# Altium footprint library PcbLib1.PcbLib: 32 footprints (part 2 of 2)
Each footprint in its own frame and in the unit in brackets; x right, y up, seen from the top. Pads: shape width x height; smd on the part's side, far side on the other; paste and mask are expansions set on the pad; w line width, h text height; cw(c..) or ccw(c..) is an arc to the next point about the centre after c.
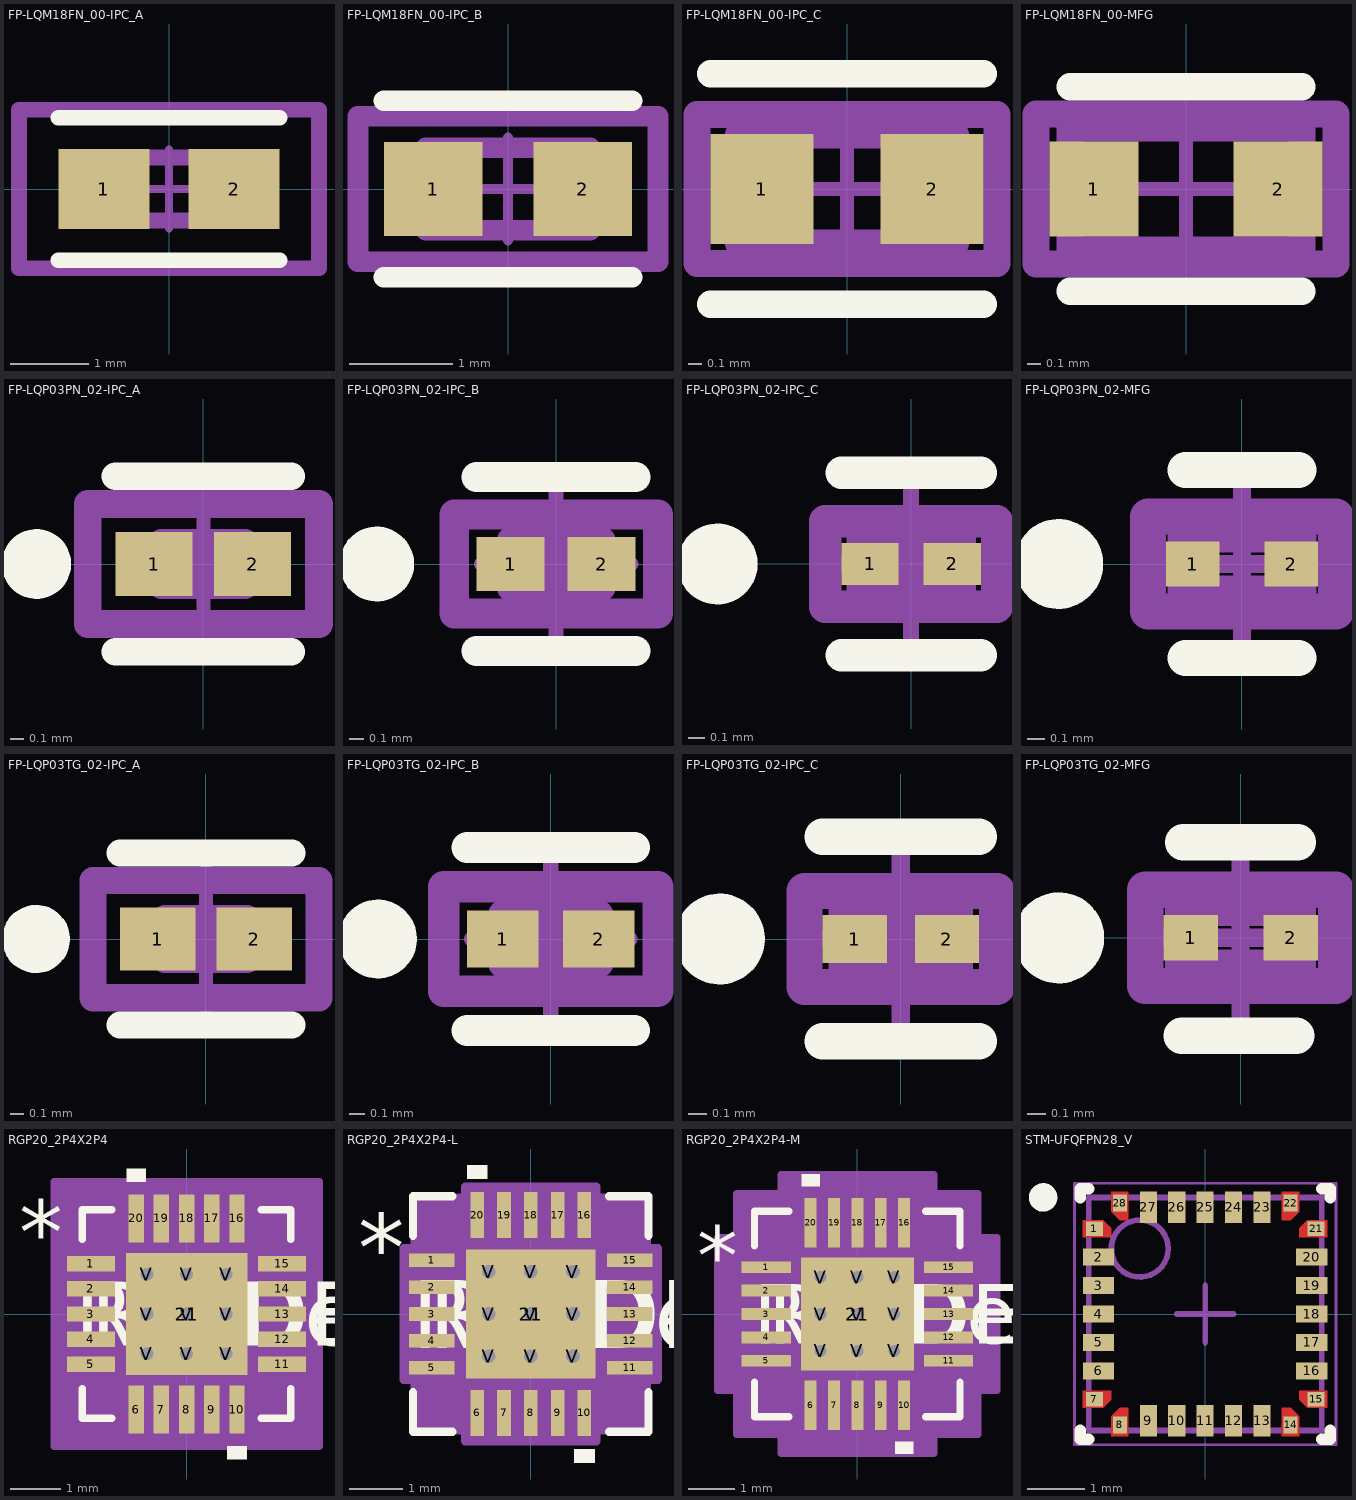
[diagram p1: the footprints below, top view; thin cyan lines are the x and y axes]

## FP-LQM18FN_00-IPC_A [mil]
pads (2):
  rect 45.6x39.85 smd paste+0 mask+0: 1(-32.56,0) 2(32.56,0)
Top Overlay:
  lines w7.87: -55.36,-35.67 55.36,-35.67 ; -55.36,35.67 55.36,35.67
Top 3D Body:
  lines w7.87: -31.5,-15.75 -31.5,15.75 31.5,15.75 31.5,-15.75 -31.5,-15.75
Top Courtyard:
  lines w7.87: -75.04,-39.61 -75.04,39.61 75.04,39.61 75.04,-39.61 -75.04,-39.61
Top Assembly:
  lines w7.87: -75.04,-39.61 -75.04,39.61 75.04,39.61 75.04,-39.61 -75.04,-39.61
  text ".Designator" at 0,7.4 h39.37
Top Component Center:
  lines w3.94: -19.68,0 19.68,0 ; 0,-19.68 0,19.68
3D body "Ind_Murata_LQM18FN4R7M00J_eec.STEP": height 10, standoff 0, extent -75.04,-39.61 75.04,39.61

## FP-LQM18FN_00-IPC_B [mil]
pads (2):
  rect 37.72x35.91 smd paste+0 mask+0: 1(-28.62,0) 2(28.62,0)
Top Overlay:
  lines w7.87: -47.48,-33.7 47.48,-33.7 ; -47.48,33.7 47.48,33.7
Top 3D Body:
  lines w7.87: -31.5,-15.75 31.5,-15.75 31.5,15.75 -31.5,15.75 -31.5,-15.75
Top Courtyard:
  lines w7.87: -57.33,-27.8 57.33,-27.8 57.33,27.8 -57.33,27.8 -57.33,-27.8
Top Assembly:
  lines w7.87: -57.33,-27.8 57.33,-27.8 57.33,27.8 -57.33,27.8 -57.33,-27.8
  text ".Designator" at 0,7.4 h39.37
Top Component Center:
  lines w3.94: -19.68,0 19.68,0 ; 0,-19.68 0,19.68
3D body "Ind_Murata_LQM18FN4R7M00J_eec.STEP": height 10, standoff 0, extent -57.33,-27.8 57.33,27.8

## FP-LQM18FN_00-IPC_C [mil]
pads (2):
  rect 29.85x31.97 smd paste+0 mask+0: 1(-24.68,0) 2(24.68,0)
Top Overlay:
  lines w7.87: -39.61,-33.46 39.61,-33.46 ; -39.61,33.46 39.61,33.46
Top 3D Body:
  lines w7.87: -31.5,-15.75 -31.5,15.75 31.5,15.75 31.5,-15.75 -31.5,-15.75
Top Courtyard:
  lines w7.87: -43.55,-21.65 -43.55,21.65 43.55,21.65 43.55,-21.65 -43.55,-21.65
Top Assembly:
  lines w7.87: -43.55,-21.65 -43.55,21.65 43.55,21.65 43.55,-21.65 -43.55,-21.65
  text ".Designator" at 0,7.4 h39.37
Top Component Center:
  lines w3.94: -19.68,0 19.68,0 ; 0,-19.68 0,19.68
3D body "Ind_Murata_LQM18FN4R7M00J_eec.STEP": height 10, standoff 0, extent -43.55,-21.65 43.55,21.65

## FP-LQM18FN_00-MFG [mm]
pads (2):
  rect 0.65x0.7 smd paste+0 mask+0: 1(-0.675,0) 2(0.675,0)
Top Overlay:
  lines w0.2: -0.85,-0.75 0.85,-0.75 ; -0.85,0.75 0.85,0.75
Top 3D Body:
  lines w0.2: -0.85,-0.45 0.85,-0.45 0.85,0.45 -0.85,0.45 -0.85,-0.45
Top Courtyard:
  lines w0.2: -1.1,-0.55 1.1,-0.55 1.1,0.55 -1.1,0.55 -1.1,-0.55
Top Assembly:
  lines w0.2: -1.1,-0.55 1.1,-0.55 1.1,0.55 -1.1,0.55 -1.1,-0.55
  text ".Designator" at 0,0.188 h1
Top Component Center:
  lines w0.1: -0.5,0 0.5,0 ; 0,-0.5 0,0.5
3D body "Ind_Murata_LQM18FN4R7M00J_eec.STEP": height 0.25, standoff 0, extent -1.1,-0.55 1.1,0.55

## FP-LQP03PN_02-IPC_A [mil]
pads (2):
  rect 21.82x18.22 smd paste+0 mask+0: 1(-13.95,0) 2(13.95,0)
Top Overlay:
  circle w9.84: c-47.24,0 r4.92
  lines w7.87: -24.86,-24.86 24.86,-24.86 ; -24.86,24.86 24.86,24.86
Top 3D Body:
  lines w7.87: -11.81,-5.91 -11.81,5.91 11.81,5.91 11.81,-5.91 -11.81,-5.91
Top Courtyard:
  lines w7.87: -32.73,-16.98 -32.73,16.98 32.73,16.98 32.73,-16.98 -32.73,-16.98
Top Assembly:
  lines w7.87: -32.73,-16.98 -32.73,16.98 32.73,16.98 32.73,-16.98 -32.73,-16.98
  text ".Designator" at 0,-0.01 h39.37
Top Component Center:
  lines w3.94: -19.68,0 19.68,0 ; 0,-19.68 0,19.68
3D body "Ind_Murata_LQP03TG39NJ02D_eec.STEP": height 10, standoff 0, extent -32.73,-16.98 32.73,16.98

## FP-LQP03PN_02-IPC_B [mil]
pads (2):
  rect 17.88x14.28 smd paste+0 mask+0: 1(-11.98,0) 2(11.98,0)
Top Overlay:
  circle w9.84: c-47.24,0 r4.92
  lines w7.87: -20.92,-22.89 20.92,-22.89 ; -20.92,22.89 20.92,22.89
Top 3D Body:
  lines w7.87: -11.81,-5.91 -11.81,5.91 11.81,5.91 11.81,-5.91 -11.81,-5.91
Top Courtyard:
  lines w7.87: -26.83,-13.05 -26.83,13.05 26.83,13.05 26.83,-13.05 -26.83,-13.05
Top Assembly:
  lines w7.87: -26.83,-13.05 -26.83,13.05 26.83,13.05 26.83,-13.05 -26.83,-13.05
  text ".Designator" at 0,-0.01 h39.37
Top Component Center:
  lines w3.94: -19.68,0 19.68,0 ; 0,-19.68 0,19.68
3D body "Ind_Murata_LQP03TG39NJ02D_eec.STEP": height 10, standoff 0, extent -26.83,-13.05 26.83,13.05

## FP-LQP03PN_02-IPC_C [mil]
pads (2):
  rect 13.94x10.34 smd paste+0 mask+0: 1(-10.01,0) 2(10.01,0)
Top Overlay:
  circle w9.84: c-47.24,0 r4.92
  lines w7.87: -16.98,-22.24 16.98,-22.24 ; -16.98,22.24 16.98,22.24
Top 3D Body:
  lines w7.87: -11.81,-5.91 -11.81,5.91 11.81,5.91 11.81,-5.91 -11.81,-5.91
Top Courtyard:
  lines w7.87: -20.92,-10.43 -20.92,10.43 20.92,10.43 20.92,-10.43 -20.92,-10.43
Top Assembly:
  lines w7.87: -20.92,-10.43 -20.92,10.43 20.92,10.43 20.92,-10.43 -20.92,-10.43
  text ".Designator" at 0,-0.01 h39.37
Top Component Center:
  lines w3.94: -19.68,0 19.68,0 ; 0,-19.68 0,19.68
3D body "Ind_Murata_LQP03TG39NJ02D_eec.STEP": height 10, standoff 0, extent -20.92,-10.43 20.92,10.43

## FP-LQP03PN_02-MFG [mm]
pads (2):
  rect 0.3x0.25 smd paste+0 mask+0: 1(-0.275,0) 2(0.275,0)
Top Overlay:
  circle w0.25: c-1.025,0 r0.125
  lines w0.2: -0.315,-0.525 0.315,-0.525 ; -0.315,0.525 0.315,0.525
Top 3D Body:
  lines w0.2: -0.315,-0.165 0.315,-0.165 0.315,0.165 -0.315,0.165 -0.315,-0.165
Top Courtyard:
  lines w0.2: -0.525,-0.265 0.525,-0.265 0.525,0.265 -0.525,0.265 -0.525,-0.265
Top Assembly:
  lines w0.2: -0.525,-0.265 0.525,-0.265 0.525,0.265 -0.525,0.265 -0.525,-0.265
  text ".Designator" at 0,0 h1
Top Component Center:
  lines w0.1: -0.5,0 0.5,0 ; 0,-0.5 0,0.5
3D body "Ind_Murata_LQP03TG39NJ02D_eec.STEP": height 0.25, standoff 0, extent -0.525,-0.265 0.525,0.265

## FP-LQP03TG_02-IPC_A [mil]
pads (2):
  rect 21.82x18.22 smd paste+0 mask+0: 1(-13.95,0) 2(13.95,0)
Top Overlay:
  circle w9.84: c-49.21,0 r4.92
  lines w7.87: -24.86,-24.86 24.86,-24.86 ; -24.86,24.86 24.86,24.86
Top 3D Body:
  lines w7.87: -11.81,-5.91 -11.81,5.91 11.81,5.91 11.81,-5.91 -11.81,-5.91
Top Courtyard:
  lines w7.87: -32.73,-16.98 -32.73,16.98 32.73,16.98 32.73,-16.98 -32.73,-16.98
Top Assembly:
  lines w7.87: -32.73,-16.98 -32.73,16.98 32.73,16.98 32.73,-16.98 -32.73,-16.98
  text ".Designator" at 0,-0.01 h39.37
Top Component Center:
  lines w3.94: -19.68,0 19.68,0 ; 0,-19.68 0,19.68
3D body "Ind_Murata_LQP03TN3N7BZ2J_eec.STEP": height 10, standoff 0, extent -32.73,-16.98 32.73,16.98

## FP-LQP03TG_02-IPC_B [mil]
pads (2):
  rect 17.88x14.28 smd paste+0 mask+0: 1(-11.98,0) 2(11.98,0)
Top Overlay:
  circle w9.84: c-43.31,0 r4.92
  lines w7.87: -20.92,-22.89 20.92,-22.89 ; -20.92,22.89 20.92,22.89
Top 3D Body:
  lines w7.87: -11.81,-5.91 -11.81,5.91 11.81,5.91 11.81,-5.91 -11.81,-5.91
Top Courtyard:
  lines w7.87: -26.83,-13.05 -26.83,13.05 26.83,13.05 26.83,-13.05 -26.83,-13.05
Top Assembly:
  lines w7.87: -26.83,-13.05 -26.83,13.05 26.83,13.05 26.83,-13.05 -26.83,-13.05
  text ".Designator" at 0,-0.01 h39.37
Top Component Center:
  lines w3.94: -19.68,0 19.68,0 ; 0,-19.68 0,19.68
3D body "Ind_Murata_LQP03TN3N7BZ2J_eec.STEP": height 10, standoff 0, extent -26.83,-13.05 26.83,13.05

## FP-LQP03TG_02-IPC_C [mil]
pads (2):
  rect 13.94x10.34 smd paste+0 mask+0: 1(-10.01,0) 2(10.01,0)
Top Overlay:
  circle w9.84: c-39.37,0 r4.92
  lines w7.87: -16.98,-22.24 16.98,-22.24 ; -16.98,22.24 16.98,22.24
Top 3D Body:
  lines w7.87: -11.81,-5.91 11.81,-5.91 11.81,5.91 -11.81,5.91 -11.81,-5.91
Top Courtyard:
  lines w7.87: -20.92,-10.43 20.92,-10.43 20.92,10.43 -20.92,10.43 -20.92,-10.43
Top Assembly:
  lines w7.87: -20.92,-10.43 20.92,-10.43 20.92,10.43 -20.92,10.43 -20.92,-10.43
  text ".Designator" at 0,-0.01 h39.37
Top Component Center:
  lines w3.94: -19.68,0 19.68,0 ; 0,-19.68 0,19.68
3D body "Ind_Murata_LQP03TN3N7BZ2J_eec.STEP": height 10, standoff 0, extent -20.92,-10.43 20.92,10.43

## FP-LQP03TG_02-MFG [mm]
pads (2):
  rect 0.3x0.25 smd paste+0 mask+0: 1(-0.275,0) 2(0.275,0)
Top Overlay:
  circle w0.25: c-1,0 r0.125
  lines w0.2: -0.323,-0.538 0.307,-0.538 ; -0.315,0.525 0.315,0.525
Top 3D Body:
  lines w0.2: -0.315,-0.165 -0.315,0.165 0.315,0.165 0.315,-0.165 -0.315,-0.165
Top Courtyard:
  lines w0.2: -0.525,-0.265 -0.525,0.265 0.525,0.265 0.525,-0.265 -0.525,-0.265
Top Assembly:
  lines w0.2: -0.525,-0.265 -0.525,0.265 0.525,0.265 0.525,-0.265 -0.525,-0.265
  text ".Designator" at 0,0 h1
Top Component Center:
  lines w0.1: -0.5,0 0.5,0 ; 0,-0.5 0,0.5
3D body "Ind_Murata_LQP03TN3N7BZ2J_eec.STEP": height 0.25, standoff 0, extent -0.525,-0.265 0.525,0.265

## RGP20_2P4X2P4 [mil]
pads (30):
  rect 37.5x12 smd paste-18.75 mask-19: 1(-74.75,39.37) 2(-74.75,19.68) 3(-74.75,0) 4(-74.75,-19.68) 5(-74.75,-39.37) 11(74.75,-39.37) 12(74.75,-19.68) 13(74.75,0) 14(74.75,19.68) 15(74.75,39.37)
  rect 12x37.5 smd paste-18.75 mask-19: 6(-39.37,-74.75) 7(-19.68,-74.75) 8(0,-74.75) 9(19.68,-74.75) 10(39.37,-74.75) 16(39.37,74.75) 17(19.68,74.75) 18(0,74.75) 19(-19.68,74.75) 20(-39.37,74.75)
  rect 95x95 smd paste-47 mask-47: 21(0,0)
  round 20 / inner round 60 / far side round 20 hole 10 paste-99999 mask-10: V(-31,-31) V(-31,0) V(-31,31) V(0,-31) V(0,0) V(0,31) V(31,-31) V(31,0) V(31,31)
Top Overlay:
  region: -31.87,103.5 -46.87,103.5 -46.87,113.5 -31.87,113.5
  region: 46.87,-103.5 31.87,-103.5 31.87,-113.5 46.87,-113.5
  lines w6: -81.5,-58.47 -81.5,-81.5 -58.47,-81.5 ; -81.5,58.47 -81.5,81.5 -58.47,81.5 ; 58.47,-81.5 81.5,-81.5 81.5,-58.47 ; 58.47,81.5 81.5,81.5 81.5,58.47
  text "REFDES" at -87.5,-25 h50
  text "RefDes" at -75,-25 h50
  text "*" at -131,39.21 h50
Top Paste:
  drawing of 16 lines, arcs and shapes, not listed
Top Solder:
  region: 38.87,-50 38.87,50 50,50 50,-50
  region: 23.13,-50 23.13,50 7.87,50 7.87,-50
  region: -7.87,-50 -7.87,50 -23.13,50 -23.13,-50
  region: -50,-50 -50,50 -38.87,50 -38.87,-50
  region: -50,-50 -50,-38.87 50,-38.87 50,-50
  region: -50,-23.13 -50,-7.87 50,-7.87 50,-23.13
  region: -50,7.87 -50,23.13 50,23.13 50,7.87
  region: -50,38.87 -50,50 50,50 50,38.87
Mechanical 13:
  lines w1: -81.5,31.5 -31.5,81.5 ; -81.5,-81.5 -81.5,81.5 81.5,81.5 81.5,-81.5 -81.5,-81.5 ; -81.5,-45.37 -81.5,-33.37 -81.5,-45.37 ; -81.5,-25.68 -81.5,-13.69 -81.5,-25.68 ; -81.5,-6 -81.5,6 -81.5,-6 ; -81.5,13.69 -81.5,25.68 -81.5,13.69 ; -81.5,33.37 -81.5,45.37 -81.5,33.37 ; -45.37,-81.5 -33.37,-81.5 -45.37,-81.5 ; -45.37,81.5 -33.37,81.5 -45.37,81.5 ; -25.68,-81.5 -13.69,-81.5 -25.68,-81.5 ; -25.68,81.5 -13.69,81.5 -25.68,81.5 ; -6,-81.5 6,-81.5 -6,-81.5 ; -6,81.5 6,81.5 -6,81.5 ; 13.69,-81.5 25.68,-81.5 13.69,-81.5 ; 13.69,81.5 25.68,81.5 13.69,81.5 ; 33.37,-81.5 45.37,-81.5 33.37,-81.5 ; 33.37,81.5 45.37,81.5 33.37,81.5 ; 81.5,-45.37 81.5,-33.37 81.5,-45.37 ; 81.5,-25.68 81.5,-13.69 81.5,-25.68 ; 81.5,-6 81.5,6 81.5,-6 ; 81.5,13.69 81.5,25.68 81.5,13.69 ; 81.5,33.37 81.5,45.37 81.5,33.37
  text "RefDes2" at -87.5,-25 h50
  text "*" at -131,39.21 h50
Mechanical 15:
  region: 103.5,-103.5 -103.5,-103.5 -103.5,103.5 103.5,103.5
  lines w6: -103.5,-103.5 103.5,-103.5 103.5,103.5 -103.5,103.5 -103.5,-103.5
3D body "RGP20_2P4X2P4.step": height 39.09, standoff 0, extent -81.5,-81.5 81.5,81.5

## RGP20_2P4X2P4-L [mil]
pads (30):
  rect 33.5x10 smd paste+0 mask+0: 1(-72.75,39.37) 2(-72.75,19.68) 3(-72.75,0) 4(-72.75,-19.68) 5(-72.75,-39.37) 11(72.75,-39.37) 12(72.75,-19.68) 13(72.75,0) 14(72.75,19.68) 15(72.75,39.37)
  rect 10x33.5 smd paste+0 mask+0: 6(-39.37,-72.75) 7(-19.68,-72.75) 8(0,-72.75) 9(19.68,-72.75) 10(39.37,-72.75) 16(39.37,72.75) 17(19.68,72.75) 18(0,72.75) 19(-19.68,72.75) 20(-39.37,72.75)
  rect 95x95 smd paste-47 mask-47: 21(0,0)
  round 20 / inner round 60 / far side round 20 hole 10 paste-99999 mask-10: V(-31,-31) V(-31,0) V(-31,31) V(0,-31) V(0,0) V(0,31) V(31,-31) V(31,0) V(31,31)
Top Overlay:
  region: -31.87,99.5 -46.87,99.5 -46.87,109.5 -31.87,109.5
  region: 46.87,-99.5 31.87,-99.5 31.87,-109.5 46.87,-109.5
  lines w6: -86.5,-57.47 -86.5,-86.5 -57.47,-86.5 ; -86.5,57.47 -86.5,86.5 -57.47,86.5 ; 57.47,-86.5 86.5,-86.5 86.5,-57.47 ; 57.47,86.5 86.5,86.5 86.5,57.47
  text "REFDES" at -87.5,-25 h50
  text "RefDes" at -75,-25 h50
  text "*" at -127,24.21 h50
Top Paste:
  drawing of 16 lines, arcs and shapes, not listed
Top Solder:
  region: 38.87,-50 38.87,50 50,50 50,-50
  region: 23.13,-50 23.13,50 7.87,50 7.87,-50
  region: -7.87,-50 -7.87,50 -23.13,50 -23.13,-50
  region: -50,-50 -50,50 -38.87,50 -38.87,-50
  region: -50,-50 -50,-38.87 50,-38.87 50,-50
  region: -50,-23.13 -50,-7.87 50,-7.87 50,-23.13
  region: -50,7.87 -50,23.13 50,23.13 50,7.87
  region: -50,38.87 -50,50 50,50 50,38.87
Mechanical 13:
  lines w1: -81.5,31.5 -31.5,81.5 ; -81.5,-81.5 -81.5,81.5 81.5,81.5 81.5,-81.5 -81.5,-81.5 ; -81.5,-45.37 -81.5,-33.37 -81.5,-45.37 ; -81.5,-25.68 -81.5,-13.69 -81.5,-25.68 ; -81.5,-6 -81.5,6 -81.5,-6 ; -81.5,13.69 -81.5,25.68 -81.5,13.69 ; -81.5,33.37 -81.5,45.37 -81.5,33.37 ; -45.37,-81.5 -33.37,-81.5 -45.37,-81.5 ; -45.37,81.5 -33.37,81.5 -45.37,81.5 ; -25.68,-81.5 -13.69,-81.5 -25.68,-81.5 ; -25.68,81.5 -13.69,81.5 -25.68,81.5 ; -6,-81.5 6,-81.5 -6,-81.5 ; -6,81.5 6,81.5 -6,81.5 ; 13.69,-81.5 25.68,-81.5 13.69,-81.5 ; 13.69,81.5 25.68,81.5 13.69,81.5 ; 33.37,-81.5 45.37,-81.5 33.37,-81.5 ; 33.37,81.5 45.37,81.5 33.37,81.5 ; 81.5,-45.37 81.5,-33.37 81.5,-45.37 ; 81.5,-25.68 81.5,-13.69 81.5,-25.68 ; 81.5,-6 81.5,6 81.5,-6 ; 81.5,13.69 81.5,25.68 81.5,13.69 ; 81.5,33.37 81.5,45.37 81.5,33.37
  text "RefDes2" at -87.5,-25 h50
  text "*" at -68.5,24.21 h50
Mechanical 15:
  region: -48.37,-85.5 -85.5,-85.5 -85.5,-48.37 -93.5,-48.37 -93.5,48.37 -85.5,48.37 -85.5,85.5 -48.37,85.5 -48.37,93.5 48.37,93.5 48.37,85.5 85.5,85.5 85.5,48.37 93.5,48.37 93.5,-48.37 85.5,-48.37 85.5,-85.5 48.37,-85.5 48.37,-93.5 -48.37,-93.5
  lines w6: -93.5,-48.37 -93.5,48.37 -85.5,48.37 -85.5,85.5 -48.37,85.5 -48.37,93.5 48.37,93.5 48.37,85.5 85.5,85.5 85.5,48.37 93.5,48.37 93.5,-48.37 85.5,-48.37 85.5,-85.5 48.37,-85.5 48.37,-93.5 -48.37,-93.5 -48.37,-85.5 -85.5,-85.5 -85.5,-48.37 -93.5,-48.37
3D body "RGP20_2P4X2P4.step": height 39.09, standoff 0, extent -81.5,-81.5 81.5,81.5

## RGP20_2P4X2P4-M [mil]
pads (30):
  rect 41.5x10 smd paste+0 mask+0: 1(-76.75,39.37) 2(-76.75,19.68) 3(-76.75,0) 4(-76.75,-19.68) 5(-76.75,-39.37) 11(76.75,-39.37) 12(76.75,-19.68) 13(76.75,0) 14(76.75,19.68) 15(76.75,39.37)
  rect 10x41.5 smd paste+0 mask+0: 6(-39.37,-76.75) 7(-19.68,-76.75) 8(0,-76.75) 9(19.68,-76.75) 10(39.37,-76.75) 16(39.37,76.75) 17(19.68,76.75) 18(0,76.75) 19(-19.68,76.75) 20(-39.37,76.75)
  rect 95x95 smd paste-47 mask-47: 21(0,0)
  round 20 / inner round 60 / far side round 20 hole 10 paste-99999 mask-10: V(-31,-31) V(-31,0) V(-31,31) V(0,-31) V(0,0) V(0,31) V(31,-31) V(31,0) V(31,31)
Top Overlay:
  region: 46.87,-107.5 31.87,-107.5 31.87,-117.5 46.87,-117.5
  region: -31.87,107.5 -46.87,107.5 -46.87,117.5 -31.87,117.5
  lines w6: -86.5,-57.47 -86.5,-86.5 -57.47,-86.5 ; -86.5,57.47 -86.5,86.5 -57.47,86.5 ; 57.47,-86.5 86.5,-86.5 86.5,-57.47 ; 57.47,86.5 86.5,86.5 86.5,57.47
  text "*" at -135,24.21 h50
  text "RefDes" at -75,-25 h50
  text "REFDES" at -87.5,-25 h50
Top Paste:
  drawing of 16 lines, arcs and shapes, not listed
Top Solder:
  region: -50,38.87 -50,50 50,50 50,38.87
  region: -50,7.87 -50,23.13 50,23.13 50,7.87
  region: -50,-23.13 -50,-7.87 50,-7.87 50,-23.13
  region: -50,-50 -50,-38.87 50,-38.87 50,-50
  region: -50,-50 -50,50 -38.87,50 -38.87,-50
  region: -7.87,-50 -7.87,50 -23.13,50 -23.13,-50
  region: 23.13,-50 23.13,50 7.87,50 7.87,-50
  region: 38.87,-50 38.87,50 50,50 50,-50
Mechanical 13:
  lines w1: -81.5,31.5 -31.5,81.5 ; -81.5,-81.5 81.5,-81.5 81.5,81.5 -81.5,81.5 -81.5,-81.5 ; -81.5,-45.37 -81.5,-33.37 -81.5,-45.37 ; -81.5,-25.68 -81.5,-13.69 -81.5,-25.68 ; -81.5,-6 -81.5,6 -81.5,-6 ; -81.5,13.69 -81.5,25.68 -81.5,13.69 ; -81.5,33.37 -81.5,45.37 -81.5,33.37 ; -45.37,-81.5 -33.37,-81.5 -45.37,-81.5 ; -45.37,81.5 -33.37,81.5 -45.37,81.5 ; -25.68,-81.5 -13.69,-81.5 -25.68,-81.5 ; -25.68,81.5 -13.69,81.5 -25.68,81.5 ; -6,-81.5 6,-81.5 -6,-81.5 ; -6,81.5 6,81.5 -6,81.5 ; 13.69,-81.5 25.68,-81.5 13.69,-81.5 ; 13.69,81.5 25.68,81.5 13.69,81.5 ; 33.37,-81.5 45.37,-81.5 33.37,-81.5 ; 33.37,81.5 45.37,81.5 33.37,81.5 ; 81.5,-45.37 81.5,-33.37 81.5,-45.37 ; 81.5,-25.68 81.5,-13.69 81.5,-25.68 ; 81.5,-6 81.5,6 81.5,-6 ; 81.5,13.69 81.5,25.68 81.5,13.69 ; 81.5,33.37 81.5,45.37 81.5,33.37
  text "*" at -68.5,24.21 h50
  text "RefDes2" at -87.5,-25 h50
Mechanical 15:
  region: -64.37,-101.5 -101.5,-101.5 -101.5,-64.37 -117.5,-64.37 -117.5,64.37 -101.5,64.37 -101.5,101.5 -64.37,101.5 -64.37,117.5 64.37,117.5 64.37,101.5 101.5,101.5 101.5,64.37 117.5,64.37 117.5,-64.37 101.5,-64.37 101.5,-101.5 64.37,-101.5 64.37,-117.5 -64.37,-117.5
  lines w6: -117.5,-64.37 -101.5,-64.37 -101.5,-101.5 -64.37,-101.5 -64.37,-117.5 64.37,-117.5 64.37,-101.5 101.5,-101.5 101.5,-64.37 117.5,-64.37 117.5,64.37 101.5,64.37 101.5,101.5 64.37,101.5 64.37,117.5 -64.37,117.5 -64.37,101.5 -101.5,101.5 -101.5,64.37 -117.5,64.37 -117.5,-64.37
3D body "RGP20_2P4X2P4.step": height 39.09, standoff 0, extent -81.5,-81.5 81.5,81.5

## STM-UFQFPN28_V [mm] "QFN, 28-Leads, Body 4.1x4.1mm, Pitch 0.5mm"
height 0.6
pads (28):
  rect 0.3x0.25 smd: 1(-1.95,1.5) 7(-1.95,-1.5) 15(1.95,-1.5) 21(1.95,1.5)
  rect 0.55x0.3 smd: 2(-1.875,1) 3(-1.875,0.5) 4(-1.875,0) 5(-1.875,-0.5) 6(-1.875,-1) 16(1.875,-1) 17(1.875,-0.5) 18(1.875,0) 19(1.875,0.5) 20(1.875,1)
  rect 0.25x0.3 smd: 8(-1.5,-1.95) 14(1.5,-1.95) 22(1.5,1.95) 28(-1.5,1.95)
  rect 0.3x0.55 smd: 9(-1,-1.875) 10(-0.5,-1.875) 11(0,-1.875) 12(0.5,-1.875) 13(1,-1.875) 23(1,1.875) 24(0.5,1.875) 25(0,1.875) 26(-0.5,1.875) 27(-1,1.875)
Top Layer:
  region: 1.35,2.15 1.35,1.65 1.505,1.65 1.65,1.795 1.65,2.15
  region: 2.15,-1.35 1.65,-1.35 1.65,-1.505 1.795,-1.65 2.15,-1.65
  region: -2.15,1.35 -1.65,1.35 -1.65,1.505 -1.795,1.65 -2.15,1.65
  region: 2.15,1.35 1.65,1.35 1.65,1.505 1.795,1.65 2.15,1.65
  region: 1.35,-2.15 1.35,-1.65 1.505,-1.65 1.65,-1.795 1.65,-2.15
  region: -1.35,2.15 -1.35,1.65 -1.505,1.65 -1.65,1.795 -1.65,2.15
  region: -1.35,-2.15 -1.35,-1.65 -1.505,-1.65 -1.65,-1.795 -1.65,-2.15
  region: -2.15,-1.35 -1.65,-1.35 -1.65,-1.505 -1.795,-1.65 -2.15,-1.65
Top Overlay:
  circle w0.25: c-2.85,2.05 r0.125
  lines w0.2: -2.2,-2.047 -2.2,-2.2 -2.047,-2.2 ; -2.2,2.047 -2.2,2.2 -2.047,2.2 ; 2.047,-2.2 2.2,-2.2 2.2,-2.047 ; 2.047,2.2 2.2,2.2 2.2,2.047
Mechanical 13:
  circle w0.1: c-1.15,1.15 r0.5
  lines w0.1: -2.05,-2.05 -2.05,2.05 2.05,2.05 2.05,-2.05 -2.05,-2.05
Mechanical 15:
  lines w0.05: -2.3,-2.3 -2.3,2.3 2.3,2.3 2.3,-2.3 -2.3,-2.3
  lines w0.1: -0.5,0 0.5,0 ; 0,-0.5 0,0.5
3D body: height 0.6, standoff 0, extent -2.05,-2.05 2.05,2.05